# EAGLE library part 2X4_ (library connectors)
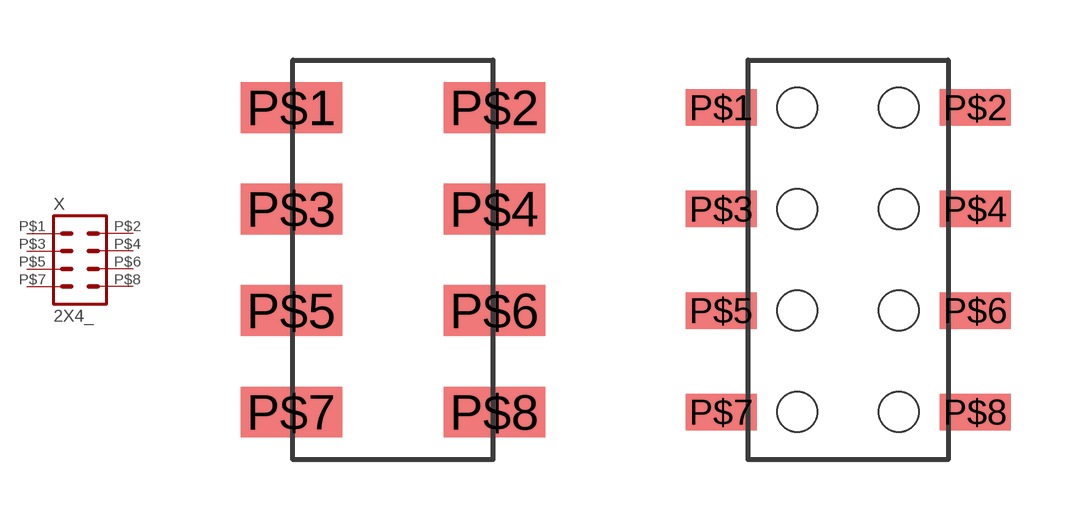
[diagram p0: symbol with the pads of 2X4_SMD_1; footprints 2X4_SMD_1, 2X4_SMD_2]

Designator prefix X

## 2X4__2.54_SMD  [2X4_SMD_1]
P$1  1  pas
P$2  2  pas
P$3  3  pas
P$4  4  pas
P$5  5  pas
P$6  6  pas
P$7  7  pas
P$8  8  pas

## 2X4__2.54_SMD_HOLE  [2X4_SMD_2]
Pads as for 2X4_SMD_1

## Footprint 2X4_SMD_1 (pad centres in mm)
smd 2.54 x 1.27: P$1 -2.54,3.81; P$2 2.54,3.81; P$3 -2.54,1.27; P$4 2.54,1.27; P$5 -2.54,-1.27; P$6 2.54,-1.27; P$7 -2.54,-3.81; P$8 2.54,-3.81

## Footprint 2X4_SMD_2 (pad centres in mm)
smd 1.778 x 0.914: P$1 -3.175,3.81; P$2 3.175,3.81; P$3 -3.175,1.27; P$4 3.175,1.27; P$5 -3.175,-1.27; P$6 3.175,-1.27; P$7 -3.175,-3.81; P$8 3.175,-3.81
hole 1 at -1.27,3.81
hole 1 at -1.27,1.27
hole 1 at -1.27,-1.27
hole 1 at -1.27,-3.81
hole 1 at 1.27,-3.81
hole 1 at 1.27,-1.27
hole 1 at 1.27,1.27
hole 1 at 1.27,3.81